# Altium footprint library Connector BNC Pad.PcbLib: 2 footprints
Each footprint in its own frame and in the unit in brackets; x right, y up, seen from the top. Pads: shape width x height; smd on the part's side, far side on the other; paste and mask are expansions set on the pad; w line width, h text height; cw(c..) or ccw(c..) is an arc to the next point about the centre after c.
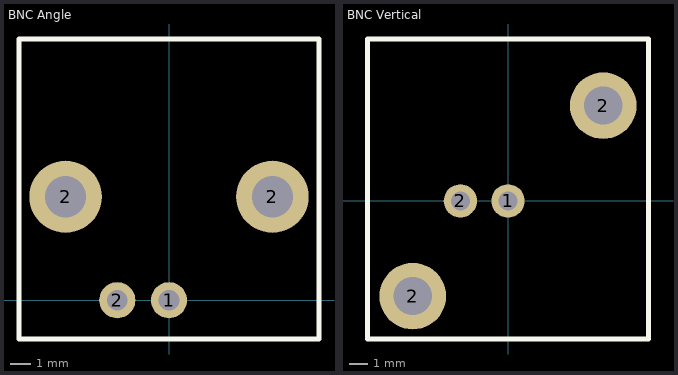
[diagram p0: the footprints below, top view; thin cyan lines are the x and y axes]

## BNC Angle [mil] "BNC Angle Jack PCB mount"
pads (4):
  round 70 hole 40: 1(0,0) 2(-100,0)
  round 140 hole 80: 2(-200,200) 2(200,200)
Top Overlay:
  lines w10: -290,-75 -290,505 290,505 290,-75 -290,-75
3D body "BNC Angle Jack PCB mount.step": height 630, standoff -157, extent -290.5,-75 290.5,1325

## BNC Vertical [mil] "BNC Vertical Jack PCB mount"
pads (4):
  round 70 hole 40: 1(0,0) 2(-100,0)
  round 140 hole 80: 2(-200,-200) 2(200,200)
Top Overlay:
  lines w10: -295,-290 -295,340 295,340 295,-290 -295,-290
3D body "BNC Vertical Jack PCB mount.step": height 1400, standoff -225, extent -290.5,-288 290.5,336.76